# EAGLE library part MM232R (library jason-test)
FTDI MM232R module
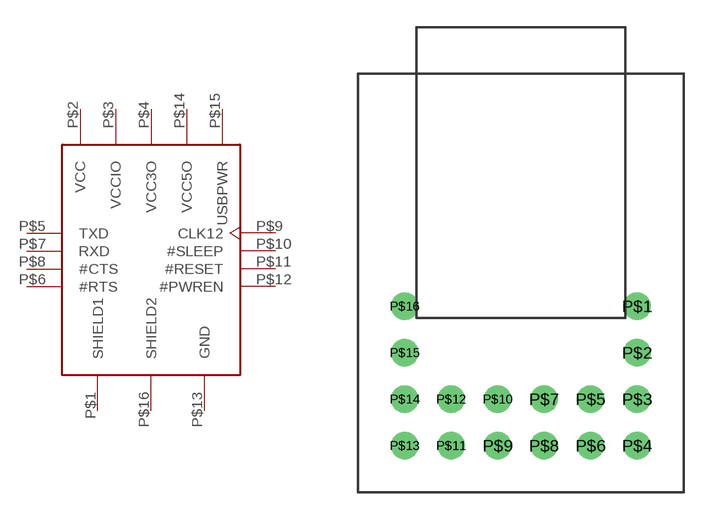
[diagram p19: symbol with the pads of MM232R; footprint MM232R]

Designator prefix -

## MM232R  [MM232R]
P$1  SHIELD1  pwr
P$2  VCC  pwr
P$3  VCCIO  pwr
P$4  VCC3O  pwr
P$5  TXD  out
P$6  #RTS  out
P$7  RXD  in
P$8  #CTS  in
P$9  CLK12  out
P$10  #SLEEP  out
P$11  #RESET  in
P$12  #PWREN  out
P$13  GND  pwr
P$14  VCC5O  pwr
P$15  USBPWR  pwr
P$16  SHIELD2  pwr

## Footprint MM232R (pad centres in mm)
drill 0.8 pad 1.5 round: P$1 6.35,0; P$2 6.35,-2.54; P$3 6.35,-5.08; P$4 6.35,-7.62; P$5 3.81,-5.08; P$6 3.81,-7.62; P$7 1.27,-5.08; P$8 1.27,-7.62; P$9 -1.27,-7.62; P$10 -1.27,-5.08; P$11 -3.81,-7.62; P$12 -3.81,-5.08; P$13 -6.35,-7.62; P$14 -6.35,-5.08; P$15 -6.35,-2.54; P$16 -6.35,0